# EAGLE library part USB_MINI_B_TYCO-1734035-1 (library RASEagleLib)
Tyco 1734035-1 USB Mini B Connector - SMD
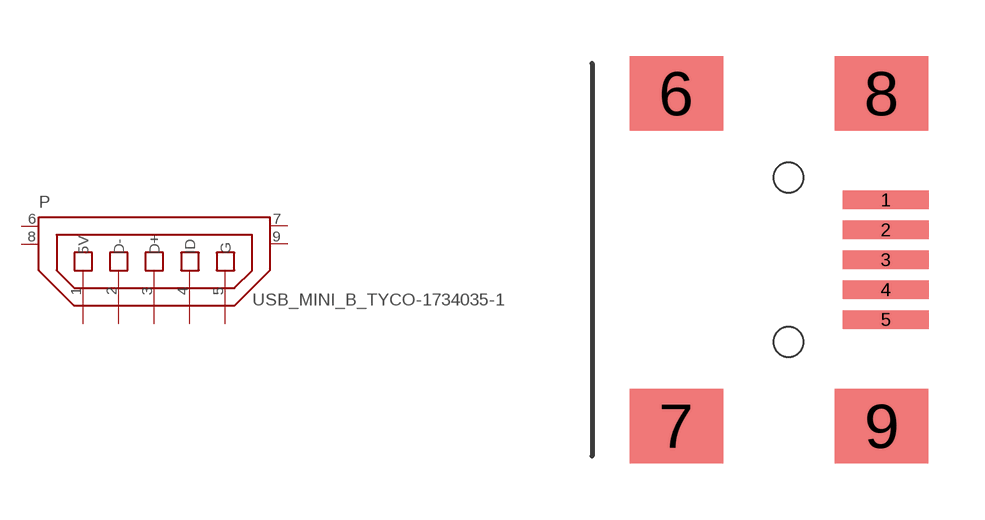
[diagram p4: symbol with the pads of USB_MINI_B_TYCO_1734035-1; footprint USB_MINI_B_TYCO_1734035-1]

Designator prefix P

## USB_MINI_B_TYCO-1734035-1  [USB_MINI_B_TYCO_1734035-1]
1  5V
2  D-
3  D+
4  ID
5  G
6  CASE
7  CASE
8  CASE
9  CASE

## Footprint USB_MINI_B_TYCO_1734035-1 (pad centres in mm)
smd 2.3 x 0.5: 1 2.6,1.6; 2 2.6,0.8; 3 2.6,0; 4 2.6,-0.8; 5 2.6,-1.6
smd 2.5 x 2: 6 -3,4.45; 7 -3,-4.45; 8 2.49,4.45; 9 2.49,-4.45
hole 0.8 at 0,2.2
hole 0.8 at 0,-2.2